# Altium footprint library con-leotronics.PCBLIB: 93 footprints (part 4 of 8)
Each footprint in its own frame and in the unit in brackets; x right, y up, seen from the top. Pads: shape width x height; smd on the part's side, far side on the other; paste and mask are expansions set on the pad; w line width, h text height; cw(c..) or ccw(c..) is an arc to the next point about the centre after c.
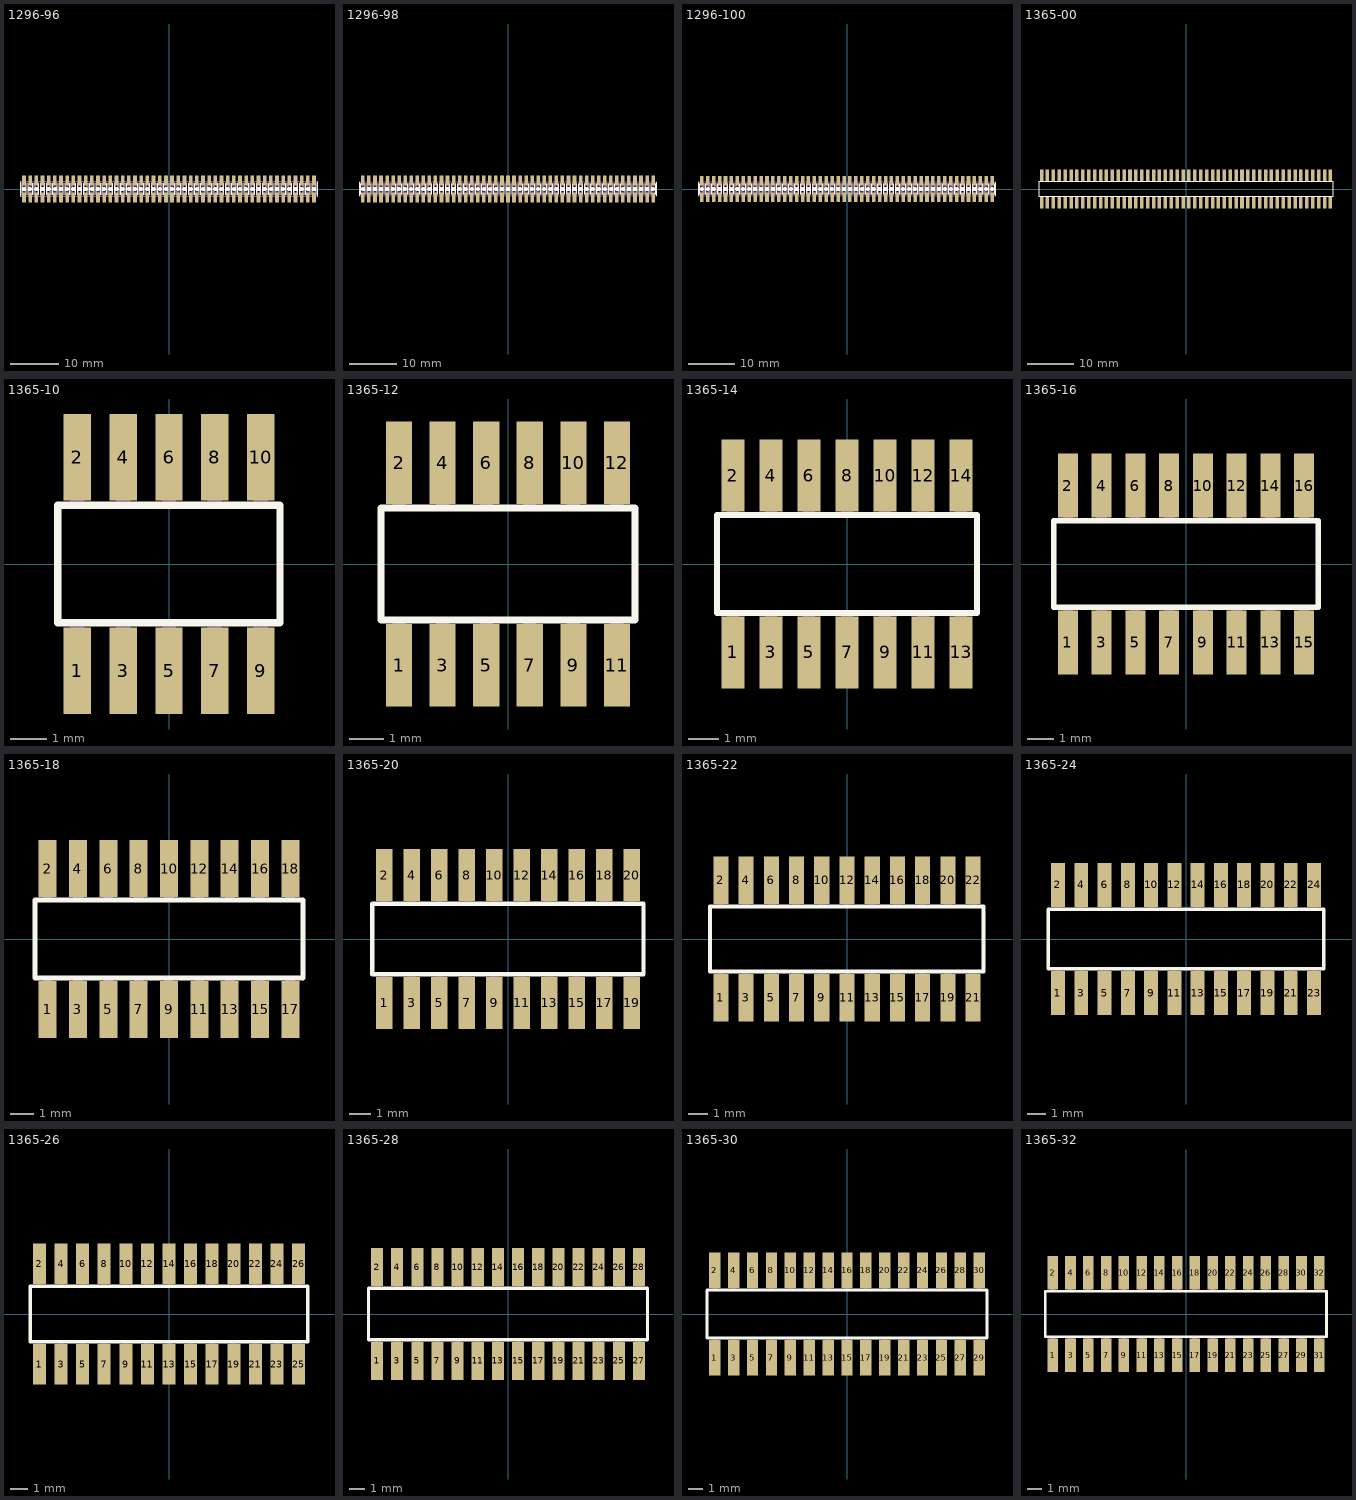
[diagram p3: the footprints below, top view; thin cyan lines are the x and y axes]

## 1296-96 [mm]
pads (96):
  rect 0.76x2.05 smd: 1(-29.845,-1.78) 2(-29.845,1.78) 3(-28.575,-1.78) 4(-28.575,1.78) 5(-27.305,-1.78) 6(-27.305,1.78) 7(-26.035,-1.78) 8(-26.035,1.78) 9(-24.765,-1.78) 10(-24.765,1.78) 11(-23.495,-1.78) 12(-23.495,1.78) 13(-22.225,-1.78) 14(-22.225,1.78) 15(-20.955,-1.78) 16(-20.955,1.78) 17(-19.685,-1.78) 18(-19.685,1.78) 19(-18.415,-1.78) 20(-18.415,1.78) 21(-17.145,-1.78) 22(-17.145,1.78) 23(-15.875,-1.78) 24(-15.875,1.78) 25(-14.605,-1.78) 26(-14.605,1.78) 27(-13.335,-1.78) 28(-13.335,1.78) 29(-12.065,-1.78) 30(-12.065,1.78) 31(-10.795,-1.78) 32(-10.795,1.78) 33(-9.525,-1.78) 34(-9.525,1.78) 35(-8.255,-1.78) 36(-8.255,1.78) 37(-6.985,-1.78) 38(-6.985,1.78) 39(-5.715,-1.78) 40(-5.715,1.78) 41(-4.445,-1.78) 42(-4.445,1.78) 43(-3.175,-1.78) 44(-3.175,1.78) 45(-1.905,-1.78) 46(-1.905,1.78) 47(-0.635,-1.78) 48(-0.635,1.78) 49(0.635,-1.78) 50(0.635,1.78) 51(1.905,-1.78) 52(1.905,1.78) 53(3.175,-1.78) 54(3.175,1.78) 55(4.445,-1.78) 56(4.445,1.78) 57(5.715,-1.78) 58(5.715,1.78) 59(6.985,-1.78) 60(6.985,1.78) 61(8.255,-1.78) 62(8.255,1.78) 63(9.525,-1.78) 64(9.525,1.78) 65(10.795,-1.78) 66(10.795,1.78) 67(12.065,-1.78) 68(12.065,1.78) 69(13.335,-1.78) 70(13.335,1.78) 71(14.605,-1.78) 72(14.605,1.78) 73(15.875,-1.78) 74(15.875,1.78) 75(17.145,-1.78) 76(17.145,1.78) 77(18.415,-1.78) 78(18.415,1.78) 79(19.685,-1.78) 80(19.685,1.78) 81(20.955,-1.78) 82(20.955,1.78) 83(22.225,-1.78) 84(22.225,1.78) 85(23.495,-1.78) 86(23.495,1.78) 87(24.765,-1.78) 88(24.765,1.78) 89(26.035,-1.78) 90(26.035,1.78) 91(27.305,-1.78) 92(27.305,1.78) 93(28.575,-1.78) 94(28.575,1.78) 95(29.845,-1.78) 96(29.845,1.78)
Top Overlay:
  drawing of 386 lines, arcs and shapes, not listed
Mechanical 16:
  drawing of 386 lines, arcs and shapes, not listed

## 1296-98 [mm]
pads (98):
  rect 0.76x2.05 smd: 1(-30.48,-1.78) 2(-30.48,1.78) 3(-29.21,-1.78) 4(-29.21,1.78) 5(-27.94,-1.78) 6(-27.94,1.78) 7(-26.67,-1.78) 8(-26.67,1.78) 9(-25.4,-1.78) 10(-25.4,1.78) 11(-24.13,-1.78) 12(-24.13,1.78) 13(-22.86,-1.78) 14(-22.86,1.78) 15(-21.59,-1.78) 16(-21.59,1.78) 17(-20.32,-1.78) 18(-20.32,1.78) 19(-19.05,-1.78) 20(-19.05,1.78) 21(-17.78,-1.78) 22(-17.78,1.78) 23(-16.51,-1.78) 24(-16.51,1.78) 25(-15.24,-1.78) 26(-15.24,1.78) 27(-13.97,-1.78) 28(-13.97,1.78) 29(-12.7,-1.78) 30(-12.7,1.78) 31(-11.43,-1.78) 32(-11.43,1.78) 33(-10.16,-1.78) 34(-10.16,1.78) 35(-8.89,-1.78) 36(-8.89,1.78) 37(-7.62,-1.78) 38(-7.62,1.78) 39(-6.35,-1.78) 40(-6.35,1.78) 41(-5.08,-1.78) 42(-5.08,1.78) 43(-3.81,-1.78) 44(-3.81,1.78) 45(-2.54,-1.78) 46(-2.54,1.78) 47(-1.27,-1.78) 48(-1.27,1.78) 49(0,-1.78) 50(0,1.78) 51(1.27,-1.78) 52(1.27,1.78) 53(2.54,-1.78) 54(2.54,1.78) 55(3.81,-1.78) 56(3.81,1.78) 57(5.08,-1.78) 58(5.08,1.78) 59(6.35,-1.78) 60(6.35,1.78) 61(7.62,-1.78) 62(7.62,1.78) 63(8.89,-1.78) 64(8.89,1.78) 65(10.16,-1.78) 66(10.16,1.78) 67(11.43,-1.78) 68(11.43,1.78) 69(12.7,-1.78) 70(12.7,1.78) 71(13.97,-1.78) 72(13.97,1.78) 73(15.24,-1.78) 74(15.24,1.78) 75(16.51,-1.78) 76(16.51,1.78) 77(17.78,-1.78) 78(17.78,1.78) 79(19.05,-1.78) 80(19.05,1.78) 81(20.32,-1.78) 82(20.32,1.78) 83(21.59,-1.78) 84(21.59,1.78) 85(22.86,-1.78) 86(22.86,1.78) 87(24.13,-1.78) 88(24.13,1.78) 89(25.4,-1.78) 90(25.4,1.78) 91(26.67,-1.78) 92(26.67,1.78) 93(27.94,-1.78) 94(27.94,1.78) 95(29.21,-1.78) 96(29.21,1.78) 97(30.48,-1.78) 98(30.48,1.78)
Top Overlay:
  drawing of 394 lines, arcs and shapes, not listed
Mechanical 16:
  drawing of 394 lines, arcs and shapes, not listed

## 1296-100 [mm]
pads (100):
  rect 0.76x2.05 smd: 1(-31.115,-1.78) 2(-31.115,1.78) 3(-29.845,-1.78) 4(-29.845,1.78) 5(-28.575,-1.78) 6(-28.575,1.78) 7(-27.305,-1.78) 8(-27.305,1.78) 9(-26.035,-1.78) 10(-26.035,1.78) 11(-24.765,-1.78) 12(-24.765,1.78) 13(-23.495,-1.78) 14(-23.495,1.78) 15(-22.225,-1.78) 16(-22.225,1.78) 17(-20.955,-1.78) 18(-20.955,1.78) 19(-19.685,-1.78) 20(-19.685,1.78) 21(-18.415,-1.78) 22(-18.415,1.78) 23(-17.145,-1.78) 24(-17.145,1.78) 25(-15.875,-1.78) 26(-15.875,1.78) 27(-14.605,-1.78) 28(-14.605,1.78) 29(-13.335,-1.78) 30(-13.335,1.78) 31(-12.065,-1.78) 32(-12.065,1.78) 33(-10.795,-1.78) 34(-10.795,1.78) 35(-9.525,-1.78) 36(-9.525,1.78) 37(-8.255,-1.78) 38(-8.255,1.78) 39(-6.985,-1.78) 40(-6.985,1.78) 41(-5.715,-1.78) 42(-5.715,1.78) 43(-4.445,-1.78) 44(-4.445,1.78) 45(-3.175,-1.78) 46(-3.175,1.78) 47(-1.905,-1.78) 48(-1.905,1.78) 49(-0.635,-1.78) 50(-0.635,1.78) 51(0.635,-1.78) 52(0.635,1.78) 53(1.905,-1.78) 54(1.905,1.78) 55(3.175,-1.78) 56(3.175,1.78) 57(4.445,-1.78) 58(4.445,1.78) 59(5.715,-1.78) 60(5.715,1.78) 61(6.985,-1.78) 62(6.985,1.78) 63(8.255,-1.78) 64(8.255,1.78) 65(9.525,-1.78) 66(9.525,1.78) 67(10.795,-1.78) 68(10.795,1.78) 69(12.065,-1.78) 70(12.065,1.78) 71(13.335,-1.78) 72(13.335,1.78) 73(14.605,-1.78) 74(14.605,1.78) 75(15.875,-1.78) 76(15.875,1.78) 77(17.145,-1.78) 78(17.145,1.78) 79(18.415,-1.78) 80(18.415,1.78) 81(19.685,-1.78) 82(19.685,1.78) 83(20.955,-1.78) 84(20.955,1.78) 85(22.225,-1.78) 86(22.225,1.78) 87(23.495,-1.78) 88(23.495,1.78) 89(24.765,-1.78) 90(24.765,1.78) 91(26.035,-1.78) 92(26.035,1.78) 93(27.305,-1.78) 94(27.305,1.78) 95(28.575,-1.78) 96(28.575,1.78) 97(29.845,-1.78) 98(29.845,1.78) 99(31.115,-1.78) 100(31.115,1.78)
Top Overlay:
  drawing of 402 lines, arcs and shapes, not listed
Mechanical 16:
  drawing of 402 lines, arcs and shapes, not listed

## 1365-00 [mm]
pads (100):
  rect 0.76x2.4 smd: 1(-31.115,-2.95) 2(-31.115,2.95) 3(-29.845,-2.95) 4(-29.845,2.95) 5(-28.575,-2.95) 6(-28.575,2.95) 7(-27.305,-2.95) 8(-27.305,2.95) 9(-26.035,-2.95) 10(-26.035,2.95) 11(-24.765,-2.95) 12(-24.765,2.95) 13(-23.495,-2.95) 14(-23.495,2.95) 15(-22.225,-2.95) 16(-22.225,2.95) 17(-20.955,-2.95) 18(-20.955,2.95) 19(-19.685,-2.95) 20(-19.685,2.95) 21(-18.415,-2.95) 22(-18.415,2.95) 23(-17.145,-2.95) 24(-17.145,2.95) 25(-15.875,-2.95) 26(-15.875,2.95) 27(-14.605,-2.95) 28(-14.605,2.95) 29(-13.335,-2.95) 30(-13.335,2.95) 31(-12.065,-2.95) 32(-12.065,2.95) 33(-10.795,-2.95) 34(-10.795,2.95) 35(-9.525,-2.95) 36(-9.525,2.95) 37(-8.255,-2.95) 38(-8.255,2.95) 39(-6.985,-2.95) 40(-6.985,2.95) 41(-5.715,-2.95) 42(-5.715,2.95) 43(-4.445,-2.95) 44(-4.445,2.95) 45(-3.175,-2.95) 46(-3.175,2.95) 47(-1.905,-2.95) 48(-1.905,2.95) 49(-0.635,-2.95) 50(-0.635,2.95) 51(0.635,-2.95) 52(0.635,2.95) 53(1.905,-2.95) 54(1.905,2.95) 55(3.175,-2.95) 56(3.175,2.95) 57(4.445,-2.95) 58(4.445,2.95) 59(5.715,-2.95) 60(5.715,2.95) 61(6.985,-2.95) 62(6.985,2.95) 63(8.255,-2.95) 64(8.255,2.95) 65(9.525,-2.95) 66(9.525,2.95) 67(10.795,-2.95) 68(10.795,2.95) 69(12.065,-2.95) 70(12.065,2.95) 71(13.335,-2.95) 72(13.335,2.95) 73(14.605,-2.95) 74(14.605,2.95) 75(15.875,-2.95) 76(15.875,2.95) 77(17.145,-2.95) 78(17.145,2.95) 79(18.415,-2.95) 80(18.415,2.95) 81(19.685,-2.95) 82(19.685,2.95) 83(20.955,-2.95) 84(20.955,2.95) 85(22.225,-2.95) 86(22.225,2.95) 87(23.495,-2.95) 88(23.495,2.95) 89(24.765,-2.95) 90(24.765,2.95) 91(26.035,-2.95) 92(26.035,2.95) 93(27.305,-2.95) 94(27.305,2.95) 95(28.575,-2.95) 96(28.575,2.95) 97(29.845,-2.95) 98(29.845,2.95) 99(31.115,-2.95) 100(31.115,2.95)
Top Overlay:
  lines w0.203: -31.65,-1.63 31.645,-1.63 31.645,1.63 -31.65,1.63 -31.65,-1.63
Mechanical 16:
  rectangle: -31.315,1.725 -30.915,2.75
  region: -30.915,-1.725 -31.315,-1.725 -31.315,-2.75 -30.915,-2.75
  rectangle: -30.045,1.725 -29.645,2.75
  region: -29.645,-1.725 -30.045,-1.725 -30.045,-2.75 -29.645,-2.75
  rectangle: -28.775,1.725 -28.375,2.75
  region: -28.375,-1.725 -28.775,-1.725 -28.775,-2.75 -28.375,-2.75
  rectangle: -27.505,1.725 -27.105,2.75
  region: -27.105,-1.725 -27.505,-1.725 -27.505,-2.75 -27.105,-2.75
  rectangle: -26.235,1.725 -25.835,2.75
  region: -25.835,-1.725 -26.235,-1.725 -26.235,-2.75 -25.835,-2.75
  rectangle: -24.965,1.725 -24.565,2.75
  region: -24.565,-1.725 -24.965,-1.725 -24.965,-2.75 -24.565,-2.75
  rectangle: -23.695,1.725 -23.295,2.75
  region: -23.295,-1.725 -23.695,-1.725 -23.695,-2.75 -23.295,-2.75
  rectangle: -22.425,1.725 -22.025,2.75
  region: -22.025,-1.725 -22.425,-1.725 -22.425,-2.75 -22.025,-2.75
  rectangle: -21.155,1.725 -20.755,2.75
  region: -20.755,-1.725 -21.155,-1.725 -21.155,-2.75 -20.755,-2.75
  rectangle: -19.885,1.725 -19.485,2.75
  region: -19.485,-1.725 -19.885,-1.725 -19.885,-2.75 -19.485,-2.75
  rectangle: -18.615,1.725 -18.215,2.75
  region: -18.215,-1.725 -18.615,-1.725 -18.615,-2.75 -18.215,-2.75
  rectangle: -17.345,1.725 -16.945,2.75
  region: -16.945,-1.725 -17.345,-1.725 -17.345,-2.75 -16.945,-2.75
  rectangle: -16.075,1.725 -15.675,2.75
  region: -15.675,-1.725 -16.075,-1.725 -16.075,-2.75 -15.675,-2.75
  rectangle: -14.805,1.725 -14.405,2.75
  region: -14.405,-1.725 -14.805,-1.725 -14.805,-2.75 -14.405,-2.75
  rectangle: -13.535,1.725 -13.135,2.75
  region: -13.135,-1.725 -13.535,-1.725 -13.535,-2.75 -13.135,-2.75
  rectangle: -12.265,1.725 -11.865,2.75
  region: -11.865,-1.725 -12.265,-1.725 -12.265,-2.75 -11.865,-2.75
  rectangle: -10.995,1.725 -10.595,2.75
  region: -10.595,-1.725 -10.995,-1.725 -10.995,-2.75 -10.595,-2.75
  rectangle: -9.725,1.725 -9.325,2.75
  region: -9.325,-1.725 -9.725,-1.725 -9.725,-2.75 -9.325,-2.75
  rectangle: -8.455,1.725 -8.055,2.75
  region: -8.055,-1.725 -8.455,-1.725 -8.455,-2.75 -8.055,-2.75
  rectangle: -7.185,1.725 -6.785,2.75
  region: -6.785,-1.725 -7.185,-1.725 -7.185,-2.75 -6.785,-2.75
  rectangle: -5.915,1.725 -5.515,2.75
  region: -5.515,-1.725 -5.915,-1.725 -5.915,-2.75 -5.515,-2.75
  rectangle: -4.645,1.725 -4.245,2.75
  region: -4.245,-1.725 -4.645,-1.725 -4.645,-2.75 -4.245,-2.75
  rectangle: -3.375,1.725 -2.975,2.75
  region: -2.975,-1.725 -3.375,-1.725 -3.375,-2.75 -2.975,-2.75
  rectangle: -2.105,1.725 -1.705,2.75
  region: -1.705,-1.725 -2.105,-1.725 -2.105,-2.75 -1.705,-2.75
  rectangle: -0.835,1.725 -0.435,2.75
  region: -0.435,-1.725 -0.835,-1.725 -0.835,-2.75 -0.435,-2.75
  rectangle: 0.435,1.725 0.835,2.75
  region: 0.835,-1.725 0.435,-1.725 0.435,-2.75 0.835,-2.75
  rectangle: 1.705,1.725 2.105,2.75
  region: 2.105,-1.725 1.705,-1.725 1.705,-2.75 2.105,-2.75
  rectangle: 2.975,1.725 3.375,2.75
  region: 3.375,-1.725 2.975,-1.725 2.975,-2.75 3.375,-2.75
  rectangle: 4.245,1.725 4.645,2.75
  region: 4.645,-1.725 4.245,-1.725 4.245,-2.75 4.645,-2.75
  rectangle: 5.515,1.725 5.915,2.75
  region: 5.915,-1.725 5.515,-1.725 5.515,-2.75 5.915,-2.75
  rectangle: 6.785,1.725 7.185,2.75
  region: 7.185,-1.725 6.785,-1.725 6.785,-2.75 7.185,-2.75
  rectangle: 8.055,1.725 8.455,2.75
  region: 8.455,-1.725 8.055,-1.725 8.055,-2.75 8.455,-2.75
  rectangle: 9.325,1.725 9.725,2.75
  region: 9.725,-1.725 9.325,-1.725 9.325,-2.75 9.725,-2.75
  rectangle: 10.595,1.725 10.995,2.75
  region: 10.995,-1.725 10.595,-1.725 10.595,-2.75 10.995,-2.75
  rectangle: 11.865,1.725 12.265,2.75
  region: 12.265,-1.725 11.865,-1.725 11.865,-2.75 12.265,-2.75
  rectangle: 13.135,1.725 13.535,2.75
  region: 13.535,-1.725 13.135,-1.725 13.135,-2.75 13.535,-2.75
  rectangle: 14.405,1.725 14.805,2.75
  region: 14.805,-1.725 14.405,-1.725 14.405,-2.75 14.805,-2.75
  rectangle: 15.675,1.725 16.075,2.75
  region: 16.075,-1.725 15.675,-1.725 15.675,-2.75 16.075,-2.75
  rectangle: 16.945,1.725 17.345,2.75
  region: 17.345,-1.725 16.945,-1.725 16.945,-2.75 17.345,-2.75
  rectangle: 18.215,1.725 18.615,2.75
  region: 18.615,-1.725 18.215,-1.725 18.215,-2.75 18.615,-2.75
  rectangle: 19.485,1.725 19.885,2.75
  region: 19.885,-1.725 19.485,-1.725 19.485,-2.75 19.885,-2.75
  rectangle: 20.755,1.725 21.155,2.75
  region: 21.155,-1.725 20.755,-1.725 20.755,-2.75 21.155,-2.75
  rectangle: 22.025,1.725 22.425,2.75
  region: 22.425,-1.725 22.025,-1.725 22.025,-2.75 22.425,-2.75
  rectangle: 23.295,1.725 23.695,2.75
  region: 23.695,-1.725 23.295,-1.725 23.295,-2.75 23.695,-2.75
  rectangle: 24.565,1.725 24.965,2.75
  region: 24.965,-1.725 24.565,-1.725 24.565,-2.75 24.965,-2.75
  rectangle: 25.835,1.725 26.235,2.75
  region: 26.235,-1.725 25.835,-1.725 25.835,-2.75 26.235,-2.75
  rectangle: 27.105,1.725 27.505,2.75
  region: 27.505,-1.725 27.105,-1.725 27.105,-2.75 27.505,-2.75
  rectangle: 28.375,1.725 28.775,2.75
  region: 28.775,-1.725 28.375,-1.725 28.375,-2.75 28.775,-2.75
  rectangle: 29.645,1.725 30.045,2.75
  region: 30.045,-1.725 29.645,-1.725 29.645,-2.75 30.045,-2.75
  rectangle: 30.915,1.725 31.315,2.75
  region: 31.315,-1.725 30.915,-1.725 30.915,-2.75 31.315,-2.75

## 1365-10 [mm]
pads (10):
  rect 0.76x2.4 smd: 1(-2.54,-2.95) 2(-2.54,2.95) 3(-1.27,-2.95) 4(-1.27,2.95) 5(0,-2.95) 6(0,2.95) 7(1.27,-2.95) 8(1.27,2.95) 9(2.54,-2.95) 10(2.54,2.95)
Top Overlay:
  lines w0.203: -3.075,-1.63 3.07,-1.63 3.07,1.63 -3.075,1.63 -3.075,-1.63
Mechanical 16:
  rectangle: -2.74,1.725 -2.34,2.75
  region: -2.34,-1.725 -2.74,-1.725 -2.74,-2.75 -2.34,-2.75
  rectangle: -1.47,1.725 -1.07,2.75
  region: -1.07,-1.725 -1.47,-1.725 -1.47,-2.75 -1.07,-2.75
  rectangle: -0.2,1.725 0.2,2.75
  region: 0.2,-1.725 -0.2,-1.725 -0.2,-2.75 0.2,-2.75
  rectangle: 1.07,1.725 1.47,2.75
  region: 1.47,-1.725 1.07,-1.725 1.07,-2.75 1.47,-2.75
  rectangle: 2.34,1.725 2.74,2.75
  region: 2.74,-1.725 2.34,-1.725 2.34,-2.75 2.74,-2.75

## 1365-12 [mm]
pads (12):
  rect 0.76x2.4 smd: 1(-3.175,-2.95) 2(-3.175,2.95) 3(-1.905,-2.95) 4(-1.905,2.95) 5(-0.635,-2.95) 6(-0.635,2.95) 7(0.635,-2.95) 8(0.635,2.95) 9(1.905,-2.95) 10(1.905,2.95) 11(3.175,-2.95) 12(3.175,2.95)
Top Overlay:
  lines w0.203: -3.71,-1.63 3.705,-1.63 3.705,1.63 -3.71,1.63 -3.71,-1.63
Mechanical 16:
  rectangle: -3.375,1.725 -2.975,2.75
  region: -2.975,-1.725 -3.375,-1.725 -3.375,-2.75 -2.975,-2.75
  rectangle: -2.105,1.725 -1.705,2.75
  region: -1.705,-1.725 -2.105,-1.725 -2.105,-2.75 -1.705,-2.75
  rectangle: -0.835,1.725 -0.435,2.75
  region: -0.435,-1.725 -0.835,-1.725 -0.835,-2.75 -0.435,-2.75
  rectangle: 0.435,1.725 0.835,2.75
  region: 0.835,-1.725 0.435,-1.725 0.435,-2.75 0.835,-2.75
  rectangle: 1.705,1.725 2.105,2.75
  region: 2.105,-1.725 1.705,-1.725 1.705,-2.75 2.105,-2.75
  rectangle: 2.975,1.725 3.375,2.75
  region: 3.375,-1.725 2.975,-1.725 2.975,-2.75 3.375,-2.75

## 1365-14 [mm]
pads (14):
  rect 0.76x2.4 smd: 1(-3.81,-2.95) 2(-3.81,2.95) 3(-2.54,-2.95) 4(-2.54,2.95) 5(-1.27,-2.95) 6(-1.27,2.95) 7(0,-2.95) 8(0,2.95) 9(1.27,-2.95) 10(1.27,2.95) 11(2.54,-2.95) 12(2.54,2.95) 13(3.81,-2.95) 14(3.81,2.95)
Top Overlay:
  lines w0.203: -4.345,-1.63 4.34,-1.63 4.34,1.63 -4.345,1.63 -4.345,-1.63
Mechanical 16:
  rectangle: -4.01,1.725 -3.61,2.75
  region: -3.61,-1.725 -4.01,-1.725 -4.01,-2.75 -3.61,-2.75
  rectangle: -2.74,1.725 -2.34,2.75
  region: -2.34,-1.725 -2.74,-1.725 -2.74,-2.75 -2.34,-2.75
  rectangle: -1.47,1.725 -1.07,2.75
  region: -1.07,-1.725 -1.47,-1.725 -1.47,-2.75 -1.07,-2.75
  rectangle: -0.2,1.725 0.2,2.75
  region: 0.2,-1.725 -0.2,-1.725 -0.2,-2.75 0.2,-2.75
  rectangle: 1.07,1.725 1.47,2.75
  region: 1.47,-1.725 1.07,-1.725 1.07,-2.75 1.47,-2.75
  rectangle: 2.34,1.725 2.74,2.75
  region: 2.74,-1.725 2.34,-1.725 2.34,-2.75 2.74,-2.75
  rectangle: 3.61,1.725 4.01,2.75
  region: 4.01,-1.725 3.61,-1.725 3.61,-2.75 4.01,-2.75

## 1365-16 [mm]
pads (16):
  rect 0.76x2.4 smd: 1(-4.445,-2.95) 2(-4.445,2.95) 3(-3.175,-2.95) 4(-3.175,2.95) 5(-1.905,-2.95) 6(-1.905,2.95) 7(-0.635,-2.95) 8(-0.635,2.95) 9(0.635,-2.95) 10(0.635,2.95) 11(1.905,-2.95) 12(1.905,2.95) 13(3.175,-2.95) 14(3.175,2.95) 15(4.445,-2.95) 16(4.445,2.95)
Top Overlay:
  lines w0.203: -4.98,-1.63 4.975,-1.63 4.975,1.63 -4.98,1.63 -4.98,-1.63
Mechanical 16:
  rectangle: -4.645,1.725 -4.245,2.75
  region: -4.245,-1.725 -4.645,-1.725 -4.645,-2.75 -4.245,-2.75
  rectangle: -3.375,1.725 -2.975,2.75
  region: -2.975,-1.725 -3.375,-1.725 -3.375,-2.75 -2.975,-2.75
  rectangle: -2.105,1.725 -1.705,2.75
  region: -1.705,-1.725 -2.105,-1.725 -2.105,-2.75 -1.705,-2.75
  rectangle: -0.835,1.725 -0.435,2.75
  region: -0.435,-1.725 -0.835,-1.725 -0.835,-2.75 -0.435,-2.75
  rectangle: 0.435,1.725 0.835,2.75
  region: 0.835,-1.725 0.435,-1.725 0.435,-2.75 0.835,-2.75
  rectangle: 1.705,1.725 2.105,2.75
  region: 2.105,-1.725 1.705,-1.725 1.705,-2.75 2.105,-2.75
  rectangle: 2.975,1.725 3.375,2.75
  region: 3.375,-1.725 2.975,-1.725 2.975,-2.75 3.375,-2.75
  rectangle: 4.245,1.725 4.645,2.75
  region: 4.645,-1.725 4.245,-1.725 4.245,-2.75 4.645,-2.75

## 1365-18 [mm]
pads (18):
  rect 0.76x2.4 smd: 1(-5.08,-2.95) 2(-5.08,2.95) 3(-3.81,-2.95) 4(-3.81,2.95) 5(-2.54,-2.95) 6(-2.54,2.95) 7(-1.27,-2.95) 8(-1.27,2.95) 9(0,-2.95) 10(0,2.95) 11(1.27,-2.95) 12(1.27,2.95) 13(2.54,-2.95) 14(2.54,2.95) 15(3.81,-2.95) 16(3.81,2.95) 17(5.08,-2.95) 18(5.08,2.95)
Top Overlay:
  lines w0.203: -5.615,-1.63 5.61,-1.63 5.61,1.63 -5.615,1.63 -5.615,-1.63
Mechanical 16:
  rectangle: -5.28,1.725 -4.88,2.75
  region: -4.88,-1.725 -5.28,-1.725 -5.28,-2.75 -4.88,-2.75
  rectangle: -4.01,1.725 -3.61,2.75
  region: -3.61,-1.725 -4.01,-1.725 -4.01,-2.75 -3.61,-2.75
  rectangle: -2.74,1.725 -2.34,2.75
  region: -2.34,-1.725 -2.74,-1.725 -2.74,-2.75 -2.34,-2.75
  rectangle: -1.47,1.725 -1.07,2.75
  region: -1.07,-1.725 -1.47,-1.725 -1.47,-2.75 -1.07,-2.75
  rectangle: -0.2,1.725 0.2,2.75
  region: 0.2,-1.725 -0.2,-1.725 -0.2,-2.75 0.2,-2.75
  rectangle: 1.07,1.725 1.47,2.75
  region: 1.47,-1.725 1.07,-1.725 1.07,-2.75 1.47,-2.75
  rectangle: 2.34,1.725 2.74,2.75
  region: 2.74,-1.725 2.34,-1.725 2.34,-2.75 2.74,-2.75
  rectangle: 3.61,1.725 4.01,2.75
  region: 4.01,-1.725 3.61,-1.725 3.61,-2.75 4.01,-2.75
  rectangle: 4.88,1.725 5.28,2.75
  region: 5.28,-1.725 4.88,-1.725 4.88,-2.75 5.28,-2.75

## 1365-20 [mm]
pads (20):
  rect 0.76x2.4 smd: 1(-5.715,-2.95) 2(-5.715,2.95) 3(-4.445,-2.95) 4(-4.445,2.95) 5(-3.175,-2.95) 6(-3.175,2.95) 7(-1.905,-2.95) 8(-1.905,2.95) 9(-0.635,-2.95) 10(-0.635,2.95) 11(0.635,-2.95) 12(0.635,2.95) 13(1.905,-2.95) 14(1.905,2.95) 15(3.175,-2.95) 16(3.175,2.95) 17(4.445,-2.95) 18(4.445,2.95) 19(5.715,-2.95) 20(5.715,2.95)
Top Overlay:
  lines w0.203: -6.25,-1.63 6.245,-1.63 6.245,1.63 -6.25,1.63 -6.25,-1.63
Mechanical 16:
  rectangle: -5.915,1.725 -5.515,2.75
  region: -5.515,-1.725 -5.915,-1.725 -5.915,-2.75 -5.515,-2.75
  rectangle: -4.645,1.725 -4.245,2.75
  region: -4.245,-1.725 -4.645,-1.725 -4.645,-2.75 -4.245,-2.75
  rectangle: -3.375,1.725 -2.975,2.75
  region: -2.975,-1.725 -3.375,-1.725 -3.375,-2.75 -2.975,-2.75
  rectangle: -2.105,1.725 -1.705,2.75
  region: -1.705,-1.725 -2.105,-1.725 -2.105,-2.75 -1.705,-2.75
  rectangle: -0.835,1.725 -0.435,2.75
  region: -0.435,-1.725 -0.835,-1.725 -0.835,-2.75 -0.435,-2.75
  rectangle: 0.435,1.725 0.835,2.75
  region: 0.835,-1.725 0.435,-1.725 0.435,-2.75 0.835,-2.75
  rectangle: 1.705,1.725 2.105,2.75
  region: 2.105,-1.725 1.705,-1.725 1.705,-2.75 2.105,-2.75
  rectangle: 2.975,1.725 3.375,2.75
  region: 3.375,-1.725 2.975,-1.725 2.975,-2.75 3.375,-2.75
  rectangle: 4.245,1.725 4.645,2.75
  region: 4.645,-1.725 4.245,-1.725 4.245,-2.75 4.645,-2.75
  rectangle: 5.515,1.725 5.915,2.75
  region: 5.915,-1.725 5.515,-1.725 5.515,-2.75 5.915,-2.75

## 1365-22 [mm]
pads (22):
  rect 0.76x2.4 smd: 1(-6.35,-2.95) 2(-6.35,2.95) 3(-5.08,-2.95) 4(-5.08,2.95) 5(-3.81,-2.95) 6(-3.81,2.95) 7(-2.54,-2.95) 8(-2.54,2.95) 9(-1.27,-2.95) 10(-1.27,2.95) 11(0,-2.95) 12(0,2.95) 13(1.27,-2.95) 14(1.27,2.95) 15(2.54,-2.95) 16(2.54,2.95) 17(3.81,-2.95) 18(3.81,2.95) 19(5.08,-2.95) 20(5.08,2.95) 21(6.35,-2.95) 22(6.35,2.95)
Top Overlay:
  lines w0.203: -6.885,-1.63 6.88,-1.63 6.88,1.63 -6.885,1.63 -6.885,-1.63
Mechanical 16:
  rectangle: -6.55,1.725 -6.15,2.75
  region: -6.15,-1.725 -6.55,-1.725 -6.55,-2.75 -6.15,-2.75
  rectangle: -5.28,1.725 -4.88,2.75
  region: -4.88,-1.725 -5.28,-1.725 -5.28,-2.75 -4.88,-2.75
  rectangle: -4.01,1.725 -3.61,2.75
  region: -3.61,-1.725 -4.01,-1.725 -4.01,-2.75 -3.61,-2.75
  rectangle: -2.74,1.725 -2.34,2.75
  region: -2.34,-1.725 -2.74,-1.725 -2.74,-2.75 -2.34,-2.75
  rectangle: -1.47,1.725 -1.07,2.75
  region: -1.07,-1.725 -1.47,-1.725 -1.47,-2.75 -1.07,-2.75
  rectangle: -0.2,1.725 0.2,2.75
  region: 0.2,-1.725 -0.2,-1.725 -0.2,-2.75 0.2,-2.75
  rectangle: 1.07,1.725 1.47,2.75
  region: 1.47,-1.725 1.07,-1.725 1.07,-2.75 1.47,-2.75
  rectangle: 2.34,1.725 2.74,2.75
  region: 2.74,-1.725 2.34,-1.725 2.34,-2.75 2.74,-2.75
  rectangle: 3.61,1.725 4.01,2.75
  region: 4.01,-1.725 3.61,-1.725 3.61,-2.75 4.01,-2.75
  rectangle: 4.88,1.725 5.28,2.75
  region: 5.28,-1.725 4.88,-1.725 4.88,-2.75 5.28,-2.75
  rectangle: 6.15,1.725 6.55,2.75
  region: 6.55,-1.725 6.15,-1.725 6.15,-2.75 6.55,-2.75

## 1365-24 [mm]
pads (24):
  rect 0.76x2.4 smd: 1(-6.985,-2.95) 2(-6.985,2.95) 3(-5.715,-2.95) 4(-5.715,2.95) 5(-4.445,-2.95) 6(-4.445,2.95) 7(-3.175,-2.95) 8(-3.175,2.95) 9(-1.905,-2.95) 10(-1.905,2.95) 11(-0.635,-2.95) 12(-0.635,2.95) 13(0.635,-2.95) 14(0.635,2.95) 15(1.905,-2.95) 16(1.905,2.95) 17(3.175,-2.95) 18(3.175,2.95) 19(4.445,-2.95) 20(4.445,2.95) 21(5.715,-2.95) 22(5.715,2.95) 23(6.985,-2.95) 24(6.985,2.95)
Top Overlay:
  lines w0.203: -7.52,-1.63 7.515,-1.63 7.515,1.63 -7.52,1.63 -7.52,-1.63
Mechanical 16:
  rectangle: -7.185,1.725 -6.785,2.75
  region: -6.785,-1.725 -7.185,-1.725 -7.185,-2.75 -6.785,-2.75
  rectangle: -5.915,1.725 -5.515,2.75
  region: -5.515,-1.725 -5.915,-1.725 -5.915,-2.75 -5.515,-2.75
  rectangle: -4.645,1.725 -4.245,2.75
  region: -4.245,-1.725 -4.645,-1.725 -4.645,-2.75 -4.245,-2.75
  rectangle: -3.375,1.725 -2.975,2.75
  region: -2.975,-1.725 -3.375,-1.725 -3.375,-2.75 -2.975,-2.75
  rectangle: -2.105,1.725 -1.705,2.75
  region: -1.705,-1.725 -2.105,-1.725 -2.105,-2.75 -1.705,-2.75
  rectangle: -0.835,1.725 -0.435,2.75
  region: -0.435,-1.725 -0.835,-1.725 -0.835,-2.75 -0.435,-2.75
  rectangle: 0.435,1.725 0.835,2.75
  region: 0.835,-1.725 0.435,-1.725 0.435,-2.75 0.835,-2.75
  rectangle: 1.705,1.725 2.105,2.75
  region: 2.105,-1.725 1.705,-1.725 1.705,-2.75 2.105,-2.75
  rectangle: 2.975,1.725 3.375,2.75
  region: 3.375,-1.725 2.975,-1.725 2.975,-2.75 3.375,-2.75
  rectangle: 4.245,1.725 4.645,2.75
  region: 4.645,-1.725 4.245,-1.725 4.245,-2.75 4.645,-2.75
  rectangle: 5.515,1.725 5.915,2.75
  region: 5.915,-1.725 5.515,-1.725 5.515,-2.75 5.915,-2.75
  rectangle: 6.785,1.725 7.185,2.75
  region: 7.185,-1.725 6.785,-1.725 6.785,-2.75 7.185,-2.75

## 1365-26 [mm]
pads (26):
  rect 0.76x2.4 smd: 1(-7.62,-2.95) 2(-7.62,2.95) 3(-6.35,-2.95) 4(-6.35,2.95) 5(-5.08,-2.95) 6(-5.08,2.95) 7(-3.81,-2.95) 8(-3.81,2.95) 9(-2.54,-2.95) 10(-2.54,2.95) 11(-1.27,-2.95) 12(-1.27,2.95) 13(0,-2.95) 14(0,2.95) 15(1.27,-2.95) 16(1.27,2.95) 17(2.54,-2.95) 18(2.54,2.95) 19(3.81,-2.95) 20(3.81,2.95) 21(5.08,-2.95) 22(5.08,2.95) 23(6.35,-2.95) 24(6.35,2.95) 25(7.62,-2.95) 26(7.62,2.95)
Top Overlay:
  lines w0.203: -8.155,-1.63 8.15,-1.63 8.15,1.63 -8.155,1.63 -8.155,-1.63
Mechanical 16:
  rectangle: -7.82,1.725 -7.42,2.75
  region: -7.42,-1.725 -7.82,-1.725 -7.82,-2.75 -7.42,-2.75
  rectangle: -6.55,1.725 -6.15,2.75
  region: -6.15,-1.725 -6.55,-1.725 -6.55,-2.75 -6.15,-2.75
  rectangle: -5.28,1.725 -4.88,2.75
  region: -4.88,-1.725 -5.28,-1.725 -5.28,-2.75 -4.88,-2.75
  rectangle: -4.01,1.725 -3.61,2.75
  region: -3.61,-1.725 -4.01,-1.725 -4.01,-2.75 -3.61,-2.75
  rectangle: -2.74,1.725 -2.34,2.75
  region: -2.34,-1.725 -2.74,-1.725 -2.74,-2.75 -2.34,-2.75
  rectangle: -1.47,1.725 -1.07,2.75
  region: -1.07,-1.725 -1.47,-1.725 -1.47,-2.75 -1.07,-2.75
  rectangle: -0.2,1.725 0.2,2.75
  region: 0.2,-1.725 -0.2,-1.725 -0.2,-2.75 0.2,-2.75
  rectangle: 1.07,1.725 1.47,2.75
  region: 1.47,-1.725 1.07,-1.725 1.07,-2.75 1.47,-2.75
  rectangle: 2.34,1.725 2.74,2.75
  region: 2.74,-1.725 2.34,-1.725 2.34,-2.75 2.74,-2.75
  rectangle: 3.61,1.725 4.01,2.75
  region: 4.01,-1.725 3.61,-1.725 3.61,-2.75 4.01,-2.75
  rectangle: 4.88,1.725 5.28,2.75
  region: 5.28,-1.725 4.88,-1.725 4.88,-2.75 5.28,-2.75
  rectangle: 6.15,1.725 6.55,2.75
  region: 6.55,-1.725 6.15,-1.725 6.15,-2.75 6.55,-2.75
  rectangle: 7.42,1.725 7.82,2.75
  region: 7.82,-1.725 7.42,-1.725 7.42,-2.75 7.82,-2.75

## 1365-28 [mm]
pads (28):
  rect 0.76x2.4 smd: 1(-8.255,-2.95) 2(-8.255,2.95) 3(-6.985,-2.95) 4(-6.985,2.95) 5(-5.715,-2.95) 6(-5.715,2.95) 7(-4.445,-2.95) 8(-4.445,2.95) 9(-3.175,-2.95) 10(-3.175,2.95) 11(-1.905,-2.95) 12(-1.905,2.95) 13(-0.635,-2.95) 14(-0.635,2.95) 15(0.635,-2.95) 16(0.635,2.95) 17(1.905,-2.95) 18(1.905,2.95) 19(3.175,-2.95) 20(3.175,2.95) 21(4.445,-2.95) 22(4.445,2.95) 23(5.715,-2.95) 24(5.715,2.95) 25(6.985,-2.95) 26(6.985,2.95) 27(8.255,-2.95) 28(8.255,2.95)
Top Overlay:
  lines w0.203: -8.79,-1.63 8.785,-1.63 8.785,1.63 -8.79,1.63 -8.79,-1.63
Mechanical 16:
  rectangle: -8.455,1.725 -8.055,2.75
  region: -8.055,-1.725 -8.455,-1.725 -8.455,-2.75 -8.055,-2.75
  rectangle: -7.185,1.725 -6.785,2.75
  region: -6.785,-1.725 -7.185,-1.725 -7.185,-2.75 -6.785,-2.75
  rectangle: -5.915,1.725 -5.515,2.75
  region: -5.515,-1.725 -5.915,-1.725 -5.915,-2.75 -5.515,-2.75
  rectangle: -4.645,1.725 -4.245,2.75
  region: -4.245,-1.725 -4.645,-1.725 -4.645,-2.75 -4.245,-2.75
  rectangle: -3.375,1.725 -2.975,2.75
  region: -2.975,-1.725 -3.375,-1.725 -3.375,-2.75 -2.975,-2.75
  rectangle: -2.105,1.725 -1.705,2.75
  region: -1.705,-1.725 -2.105,-1.725 -2.105,-2.75 -1.705,-2.75
  rectangle: -0.835,1.725 -0.435,2.75
  region: -0.435,-1.725 -0.835,-1.725 -0.835,-2.75 -0.435,-2.75
  rectangle: 0.435,1.725 0.835,2.75
  region: 0.835,-1.725 0.435,-1.725 0.435,-2.75 0.835,-2.75
  rectangle: 1.705,1.725 2.105,2.75
  region: 2.105,-1.725 1.705,-1.725 1.705,-2.75 2.105,-2.75
  rectangle: 2.975,1.725 3.375,2.75
  region: 3.375,-1.725 2.975,-1.725 2.975,-2.75 3.375,-2.75
  rectangle: 4.245,1.725 4.645,2.75
  region: 4.645,-1.725 4.245,-1.725 4.245,-2.75 4.645,-2.75
  rectangle: 5.515,1.725 5.915,2.75
  region: 5.915,-1.725 5.515,-1.725 5.515,-2.75 5.915,-2.75
  rectangle: 6.785,1.725 7.185,2.75
  region: 7.185,-1.725 6.785,-1.725 6.785,-2.75 7.185,-2.75
  rectangle: 8.055,1.725 8.455,2.75
  region: 8.455,-1.725 8.055,-1.725 8.055,-2.75 8.455,-2.75

## 1365-30 [mm]
pads (30):
  rect 0.76x2.4 smd: 1(-8.89,-2.95) 2(-8.89,2.95) 3(-7.62,-2.95) 4(-7.62,2.95) 5(-6.35,-2.95) 6(-6.35,2.95) 7(-5.08,-2.95) 8(-5.08,2.95) 9(-3.81,-2.95) 10(-3.81,2.95) 11(-2.54,-2.95) 12(-2.54,2.95) 13(-1.27,-2.95) 14(-1.27,2.95) 15(0,-2.95) 16(0,2.95) 17(1.27,-2.95) 18(1.27,2.95) 19(2.54,-2.95) 20(2.54,2.95) 21(3.81,-2.95) 22(3.81,2.95) 23(5.08,-2.95) 24(5.08,2.95) 25(6.35,-2.95) 26(6.35,2.95) 27(7.62,-2.95) 28(7.62,2.95) 29(8.89,-2.95) 30(8.89,2.95)
Top Overlay:
  lines w0.203: -9.425,-1.63 9.42,-1.63 9.42,1.63 -9.425,1.63 -9.425,-1.63
Mechanical 16:
  rectangle: -9.09,1.725 -8.69,2.75
  region: -8.69,-1.725 -9.09,-1.725 -9.09,-2.75 -8.69,-2.75
  rectangle: -7.82,1.725 -7.42,2.75
  region: -7.42,-1.725 -7.82,-1.725 -7.82,-2.75 -7.42,-2.75
  rectangle: -6.55,1.725 -6.15,2.75
  region: -6.15,-1.725 -6.55,-1.725 -6.55,-2.75 -6.15,-2.75
  rectangle: -5.28,1.725 -4.88,2.75
  region: -4.88,-1.725 -5.28,-1.725 -5.28,-2.75 -4.88,-2.75
  rectangle: -4.01,1.725 -3.61,2.75
  region: -3.61,-1.725 -4.01,-1.725 -4.01,-2.75 -3.61,-2.75
  rectangle: -2.74,1.725 -2.34,2.75
  region: -2.34,-1.725 -2.74,-1.725 -2.74,-2.75 -2.34,-2.75
  rectangle: -1.47,1.725 -1.07,2.75
  region: -1.07,-1.725 -1.47,-1.725 -1.47,-2.75 -1.07,-2.75
  rectangle: -0.2,1.725 0.2,2.75
  region: 0.2,-1.725 -0.2,-1.725 -0.2,-2.75 0.2,-2.75
  rectangle: 1.07,1.725 1.47,2.75
  region: 1.47,-1.725 1.07,-1.725 1.07,-2.75 1.47,-2.75
  rectangle: 2.34,1.725 2.74,2.75
  region: 2.74,-1.725 2.34,-1.725 2.34,-2.75 2.74,-2.75
  rectangle: 3.61,1.725 4.01,2.75
  region: 4.01,-1.725 3.61,-1.725 3.61,-2.75 4.01,-2.75
  rectangle: 4.88,1.725 5.28,2.75
  region: 5.28,-1.725 4.88,-1.725 4.88,-2.75 5.28,-2.75
  rectangle: 6.15,1.725 6.55,2.75
  region: 6.55,-1.725 6.15,-1.725 6.15,-2.75 6.55,-2.75
  rectangle: 7.42,1.725 7.82,2.75
  region: 7.82,-1.725 7.42,-1.725 7.42,-2.75 7.82,-2.75
  rectangle: 8.69,1.725 9.09,2.75
  region: 9.09,-1.725 8.69,-1.725 8.69,-2.75 9.09,-2.75

## 1365-32 [mm]
pads (32):
  rect 0.76x2.4 smd: 1(-9.525,-2.95) 2(-9.525,2.95) 3(-8.255,-2.95) 4(-8.255,2.95) 5(-6.985,-2.95) 6(-6.985,2.95) 7(-5.715,-2.95) 8(-5.715,2.95) 9(-4.445,-2.95) 10(-4.445,2.95) 11(-3.175,-2.95) 12(-3.175,2.95) 13(-1.905,-2.95) 14(-1.905,2.95) 15(-0.635,-2.95) 16(-0.635,2.95) 17(0.635,-2.95) 18(0.635,2.95) 19(1.905,-2.95) 20(1.905,2.95) 21(3.175,-2.95) 22(3.175,2.95) 23(4.445,-2.95) 24(4.445,2.95) 25(5.715,-2.95) 26(5.715,2.95) 27(6.985,-2.95) 28(6.985,2.95) 29(8.255,-2.95) 30(8.255,2.95) 31(9.525,-2.95) 32(9.525,2.95)
Top Overlay:
  lines w0.203: -10.06,-1.63 10.055,-1.63 10.055,1.63 -10.06,1.63 -10.06,-1.63
Mechanical 16:
  rectangle: -9.725,1.725 -9.325,2.75
  region: -9.325,-1.725 -9.725,-1.725 -9.725,-2.75 -9.325,-2.75
  rectangle: -8.455,1.725 -8.055,2.75
  region: -8.055,-1.725 -8.455,-1.725 -8.455,-2.75 -8.055,-2.75
  rectangle: -7.185,1.725 -6.785,2.75
  region: -6.785,-1.725 -7.185,-1.725 -7.185,-2.75 -6.785,-2.75
  rectangle: -5.915,1.725 -5.515,2.75
  region: -5.515,-1.725 -5.915,-1.725 -5.915,-2.75 -5.515,-2.75
  rectangle: -4.645,1.725 -4.245,2.75
  region: -4.245,-1.725 -4.645,-1.725 -4.645,-2.75 -4.245,-2.75
  rectangle: -3.375,1.725 -2.975,2.75
  region: -2.975,-1.725 -3.375,-1.725 -3.375,-2.75 -2.975,-2.75
  rectangle: -2.105,1.725 -1.705,2.75
  region: -1.705,-1.725 -2.105,-1.725 -2.105,-2.75 -1.705,-2.75
  rectangle: -0.835,1.725 -0.435,2.75
  region: -0.435,-1.725 -0.835,-1.725 -0.835,-2.75 -0.435,-2.75
  rectangle: 0.435,1.725 0.835,2.75
  region: 0.835,-1.725 0.435,-1.725 0.435,-2.75 0.835,-2.75
  rectangle: 1.705,1.725 2.105,2.75
  region: 2.105,-1.725 1.705,-1.725 1.705,-2.75 2.105,-2.75
  rectangle: 2.975,1.725 3.375,2.75
  region: 3.375,-1.725 2.975,-1.725 2.975,-2.75 3.375,-2.75
  rectangle: 4.245,1.725 4.645,2.75
  region: 4.645,-1.725 4.245,-1.725 4.245,-2.75 4.645,-2.75
  rectangle: 5.515,1.725 5.915,2.75
  region: 5.915,-1.725 5.515,-1.725 5.515,-2.75 5.915,-2.75
  rectangle: 6.785,1.725 7.185,2.75
  region: 7.185,-1.725 6.785,-1.725 6.785,-2.75 7.185,-2.75
  rectangle: 8.055,1.725 8.455,2.75
  region: 8.455,-1.725 8.055,-1.725 8.055,-2.75 8.455,-2.75
  rectangle: 9.325,1.725 9.725,2.75
  region: 9.725,-1.725 9.325,-1.725 9.325,-2.75 9.725,-2.75